# Altium footprint library RCID.PcbLib: 104 footprints (part 5 of 7)
Each footprint in its own frame and in the unit in brackets; x right, y up, seen from the top. Pads: shape width x height; smd on the part's side, far side on the other; paste and mask are expansions set on the pad; w line width, h text height; cw(c..) or ccw(c..) is an arc to the next point about the centre after c.
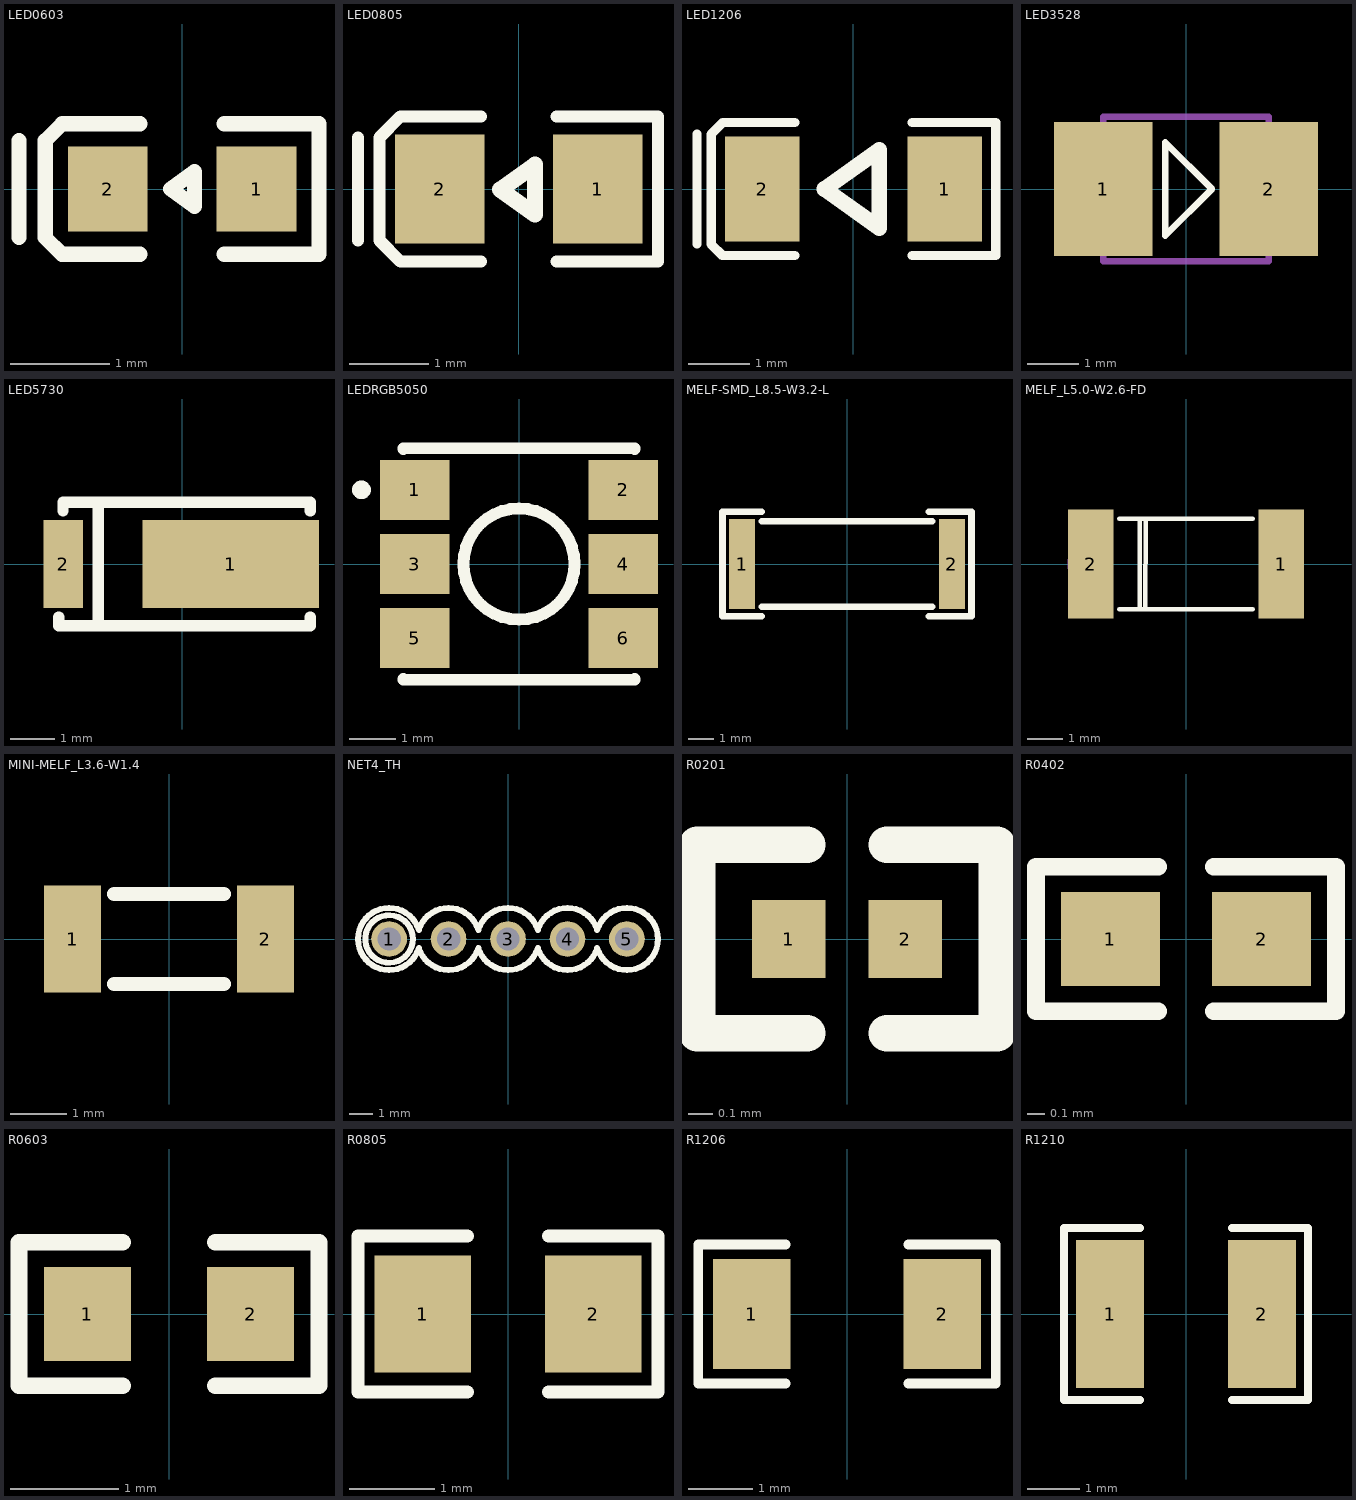
[diagram p4: the footprints below, top view; thin cyan lines are the x and y axes]

## LED0603 [mm]
pads (2):
  rect 0.806x0.864 smd paste-100 mask+0.051: 1(0.753,0) 2(-0.753,0)
Top Overlay:
  lines w0.152: -1.651,-0.491 -1.651,0.491 ; -0.426,-0.661 -1.217,-0.661 -1.385,-0.492 -1.385,0.489 -1.213,0.661 -0.426,0.661 ; 0.426,-0.661 1.385,-0.661 1.385,0.661 0.426,0.661 ; -0.117,0 0.127,0.175 0.127,-0.175 -0.117,0
Top Paste:
  region: 1.195,0.45 0.395,0.45 0.345,0.4 0.345,0.172 0.715,0.172 0.715,-0.158 0.345,-0.158 0.345,-0.4 0.395,-0.45 1.195,-0.45 1.245,-0.4 1.245,0.4
  region: -0.355,0.4 -0.355,0.172 -0.735,0.172 -0.735,-0.158 -0.355,-0.158 -0.355,-0.4 -0.405,-0.45 -1.195,-0.45 -1.245,-0.4 -1.245,0.4 -1.195,0.45 -0.405,0.45

## LED0805 [mm]
pads (2):
  rect 1.133x1.377 smd paste-100 mask+0.051: 1(1,0) 2(-1,0)
Top Overlay:
  lines w0.152: -2.032,-0.652 -2.032,0.652 ; -0.476,-0.917 -1.496,-0.917 -1.761,-0.652 -1.761,0.652 -1.496,0.917 -0.476,0.917 ; 0.476,-0.917 1.761,-0.917 1.761,0.917 0.476,0.917
  lines w0.203: -0.235,-0.009 0.208,-0.325 0.208,0.307 -0.235,-0.009
Top Paste:
  region: 0.45,-0.64 0.45,-0.22 0.895,-0.22 0.895,0.23 0.455,0.23 0.45,0.64 0.5,0.69 1.65,0.69 1.7,0.64 1.7,-0.64 1.65,-0.69 0.5,-0.69
  region: -1.7,-0.64 -1.7,0.64 -1.65,0.69 -0.5,0.69 -0.45,0.64 -0.445,0.23 -0.895,0.23 -0.895,-0.22 -0.455,-0.22 -0.45,-0.64 -0.5,-0.69 -1.65,-0.69

## LED1206 [mm]
pads (2):
  rect 1.208x1.701 smd paste-100 mask+0.051: 1(1.479,0) 2(-1.479,0)
Top Overlay:
  lines w0.152: -2.54,-0.893 -2.54,0.893 ; -0.951,-1.079 -2.128,-1.079 -2.311,-0.896 -2.311,0.89 -2.122,1.079 -0.951,1.079 ; 0.951,-1.079 2.311,-1.079 2.311,1.079 0.951,1.079
  lines w0.254: 0.417,-0.635 0.417,0.635 ; 0.417,-0.635 0.417,0.635 ; 0.417,-0.635 -0.472,0 0.417,0.635
Top Paste:
  region: -0.875,-0.75 -0.875,-0.389 -0.975,-0.289 -1.186,-0.289 -1.286,-0.189 -1.286,0.189 -1.186,0.289 -0.975,0.289 -0.875,0.389 -0.875,0.75 -0.975,0.85 -1.983,0.85 -2.083,0.75 -2.083,-0.75 -1.983,-0.85 -0.975,-0.85
  region: 0.875,-0.75 0.875,-0.389 0.975,-0.289 1.186,-0.289 1.286,-0.189 1.286,0.189 1.186,0.289 0.975,0.289 0.875,0.389 0.875,0.75 0.975,0.85 1.983,0.85 2.083,0.75 2.083,-0.75 1.983,-0.85 0.975,-0.85

## LED3528 [mm]
pads (2):
  rect 1.9x2.6 smd paste+0 mask+0.051: 1(-1.6,0) 2(1.6,0)
Top Overlay:
  lines w0.127: -0.4,-0.9 0.5,0 -0.4,0.9 -0.4,-0.9
Mechanical 15:
  lines w0.127: -1.6,-1.1 -1.8,-1.1 -1.8,1.1 -1.6,1.1 ; -1.6,-1.1 -1.6,1.1 ; -1.6,-1.1 -1.6,-1.4 1.6,-1.4 1.6,-1.1 ; -1.6,1.1 -1.6,1.4 1.6,1.4 1.6,1.1 ; 1.6,-1.1 1.8,-1.1 1.8,1.1 1.6,1.1 ; 1.6,-1.1 1.6,1.1

## LED5730 [mm]
pads (2):
  rect 4x2 smd paste+0 mask+0.051: 1(1.1,0)
  rect 0.9x2 smd paste+0 mask+0.051: 2(-2.7,0)
Top Overlay:
  lines w0.254: -2.8,-1.2 -2.8,-1.4 2.9,-1.4 2.9,-1.2 ; -2.7,1.2 -2.7,1.4 2.9,1.4 2.9,1.2 ; -1.902,-1.4 -1.902,1.4

## LEDRGB5050 [mm]
pads (6):
  rect 1.5x1.3 smd paste+0 mask+0.051: 1(-2.25,1.6) 2(2.25,1.6) 3(-2.25,0) 4(2.25,0) 5(-2.25,-1.6) 6(2.25,-1.6)
Top Overlay:
  circle w0.254: c-3.4,1.6 r0.075
  circle w0.254: c0,0 r1.2
  lines w0.254: -2.5,-2.481 -2.5,-2.5 2.5,-2.5 2.5,-2.481 ; -2.5,2.481 -2.5,2.5 2.5,2.5 2.5,2.481

## MELF-SMD_L8.5-W3.2-L [mm]
pads (2):
  rect 1x3.5 smd paste+0 mask+0.05: 1(-4.064,0) 2(4.064,0)
Top Overlay:
  lines w0.254: -3.302,-2.032 -4.826,-2.032 -4.826,2.032 -3.302,2.032 ; -3.302,-1.651 3.302,-1.651 ; -3.302,1.651 3.302,1.651 ; 3.175,-2.032 4.826,-2.032 4.826,2.032 3.175,2.032

## MELF_L5.0-W2.6-FD [mil]
pads (2):
  rect 50x120 smd paste+0 mask+2: 1(105,0) 2(-105,0)
Top Overlay:
  lines w5: -73.4,-50 73.4,-50 ; -73.4,50 73.4,50 ; -50.85,-50 -50.85,50 ; -45,-50 -44.47,50
Mechanical 15:
  region: 100,-20 100,20 110,20 110,-20
  region: 85,5 125,5 125,-5 85,-5
  region: -130,5 -90,5 -90,-5 -130,-5

## MINI-MELF_L3.6-W1.4 [mil]
pads (2):
  rect 40x75 smd paste+0 mask+2: 1(-67.5,0) 2(67.5,0)
Top Overlay:
  lines w10: -38.4,-31.5 38.4,-31.5 ; -38.4,31.5 38.4,31.5

## NET4_TH [mil]
pads (5):
  round 60 hole 39.37 paste-99999 mask+2: 1(-200,0) 2(-100,0) 3(0,0) 4(100,0) 5(199.91,0)
Top Overlay:
  circle w10: c-200,0 r40
  lines w10: -150.05,-15.28 cw(c-200,0) -200,-52.24 cw(c-200,0) -252.24,0 cw(c-200,0) -200,52.24 cw(c-200,0) -150.05,15.28 ; -149.95,-15.28 ccw(c-100,0) -100,-52.24 ccw(c-100,0) -50.05,-15.28 ; -149.95,15.28 cw(c-100,0) -100,52.24 cw(c-100,0) -50.05,15.28 ; -49.95,-15.28 ccw(c0,0) 0,-52.24 ccw(c0,0) 49.95,-15.28 ; -49.95,15.28 cw(c0,0) 0,52.24 cw(c0,0) 49.95,15.28 ; 50.05,-15.28 ccw(c100,0) 100,-52.24 ccw(c100,0) 149.95,-15.28 ccw(c199.91,0) 199.91,-52.24 ccw(c199.91,0) 252.15,0 ccw(c199.91,0) 199.91,52.24 ccw(c199.91,0) 149.95,15.28 ccw(c100,0) 100,52.24 ccw(c100,0) 50.05,15.28

## R0201 [mm]
pads (2):
  rect 0.303x0.324 smd paste-100 mask+0.051: 1(-0.242,0) 2(0.242,0)
Top Overlay:
  lines w0.152: -0.166,-0.391 -0.622,-0.391 -0.622,0.391 -0.166,0.391 ; 0.166,-0.391 0.622,-0.391 0.622,0.391 0.166,0.391
Top Paste:
  region: -0.081,-0.138 -0.081,0.138 -0.105,0.162 -0.369,0.162 -0.393,0.138 -0.393,-0.138 -0.369,-0.162 -0.105,-0.162
  region: 0.081,-0.138 0.081,0.138 0.105,0.162 0.369,0.162 0.393,0.138 0.393,-0.138 0.369,-0.162 0.105,-0.162

## R0402 [mm]
pads (2):
  rect 0.566x0.54 smd paste-100 mask+0.051: 1(-0.433,0) 2(0.433,0)
Top Overlay:
  lines w0.102: -0.159,-0.413 -0.858,-0.413 -0.858,0.413 -0.159,0.413 ; 0.159,-0.413 0.858,-0.413 0.858,0.413 0.159,0.413
Top Paste:
  region: -0.135,-0.23 -0.135,0.23 -0.175,0.27 -0.676,0.27 -0.716,0.23 -0.716,-0.23 -0.676,-0.27 -0.175,-0.27
  region: 0.135,-0.23 0.135,0.23 0.175,0.27 0.676,0.27 0.716,0.23 0.716,-0.23 0.676,-0.27 0.175,-0.27

## R0603 [mm]
pads (2):
  rect 0.806x0.864 smd paste-100 mask+0.051: 1(-0.753,0) 2(0.753,0)
Top Overlay:
  lines w0.152: -0.426,-0.661 -1.385,-0.661 -1.385,0.661 -0.426,0.661 ; 0.426,-0.661 1.385,-0.661 1.385,0.661 0.426,0.661
Top Paste:
  region: 1.195,0.45 0.395,0.45 0.345,0.4 0.345,0.172 0.715,0.172 0.715,-0.158 0.345,-0.158 0.345,-0.4 0.395,-0.45 1.195,-0.45 1.245,-0.4 1.245,0.4
  region: -0.355,0.4 -0.355,0.172 -0.735,0.172 -0.735,-0.158 -0.355,-0.158 -0.355,-0.4 -0.405,-0.45 -1.195,-0.45 -1.245,-0.4 -1.245,0.4 -1.195,0.45 -0.405,0.45

## R0805 [mm]
pads (2):
  rect 1.133x1.377 smd paste-100 mask+0.051: 1(-1,0) 2(1,0)
Top Overlay:
  lines w0.152: -0.476,-0.917 -1.761,-0.917 -1.761,0.917 -0.476,0.917 ; 0.476,-0.917 1.761,-0.917 1.761,0.917 0.476,0.917
Top Paste:
  region: -1.7,-0.64 -1.7,0.64 -1.65,0.69 -0.5,0.69 -0.45,0.64 -0.445,0.23 -0.895,0.23 -0.895,-0.22 -0.455,-0.22 -0.45,-0.64 -0.5,-0.69 -1.65,-0.69
  region: 0.45,-0.64 0.45,-0.22 0.895,-0.22 0.895,0.23 0.455,0.23 0.45,0.64 0.5,0.69 1.65,0.69 1.7,0.64 1.7,-0.64 1.65,-0.69 0.5,-0.69

## R1206 [mm]
pads (2):
  rect 1.208x1.701 smd paste-100 mask+0.051: 1(-1.479,0) 2(1.479,0)
Top Overlay:
  lines w0.152: -0.951,-1.079 -2.311,-1.079 -2.311,1.079 -0.951,1.079 ; 0.951,-1.079 2.311,-1.079 2.311,1.079 0.951,1.079
Top Paste:
  region: 0.875,-0.75 0.875,-0.389 0.975,-0.289 1.186,-0.289 1.286,-0.189 1.286,0.189 1.186,0.289 0.975,0.289 0.875,0.389 0.875,0.75 0.975,0.85 1.983,0.85 2.083,0.75 2.083,-0.75 1.983,-0.85 0.975,-0.85
  region: -0.875,-0.75 -0.875,-0.389 -0.975,-0.289 -1.186,-0.289 -1.286,-0.189 -1.286,0.189 -1.186,0.289 -0.975,0.289 -0.875,0.389 -0.875,0.75 -0.975,0.85 -1.983,0.85 -2.083,0.75 -2.083,-0.75 -1.983,-0.85 -0.975,-0.85

## R1210 [mm]
pads (2):
  rect 1.283x2.808 smd paste-100 mask+0.051: 1(-1.441,0) 2(1.441,0)
Top Overlay:
  lines w0.152: -0.876,-1.633 -2.311,-1.633 -2.311,1.633 -0.876,1.633 ; 0.876,-1.633 2.311,-1.633 2.311,1.633 0.876,1.633
Top Paste:
  region: -0.8,-1.304 -0.8,-0.577 -0.9,-0.477 -1.136,-0.477 -1.236,-0.377 -1.236,0.377 -1.136,0.477 -0.9,0.477 -0.8,0.577 -0.8,1.304 -0.9,1.404 -1.983,1.404 -2.083,1.304 -2.083,-1.304 -1.983,-1.404 -0.9,-1.404
  region: 0.8,-1.304 0.8,-0.577 0.9,-0.477 1.136,-0.477 1.236,-0.377 1.236,0.377 1.136,0.477 0.9,0.477 0.8,0.577 0.8,1.304 0.9,1.404 1.983,1.404 2.083,1.304 2.083,-1.304 1.983,-1.404 0.9,-1.404